# EAGLE library part HIROSE_DF_17 (library greghale_eib_preamp)
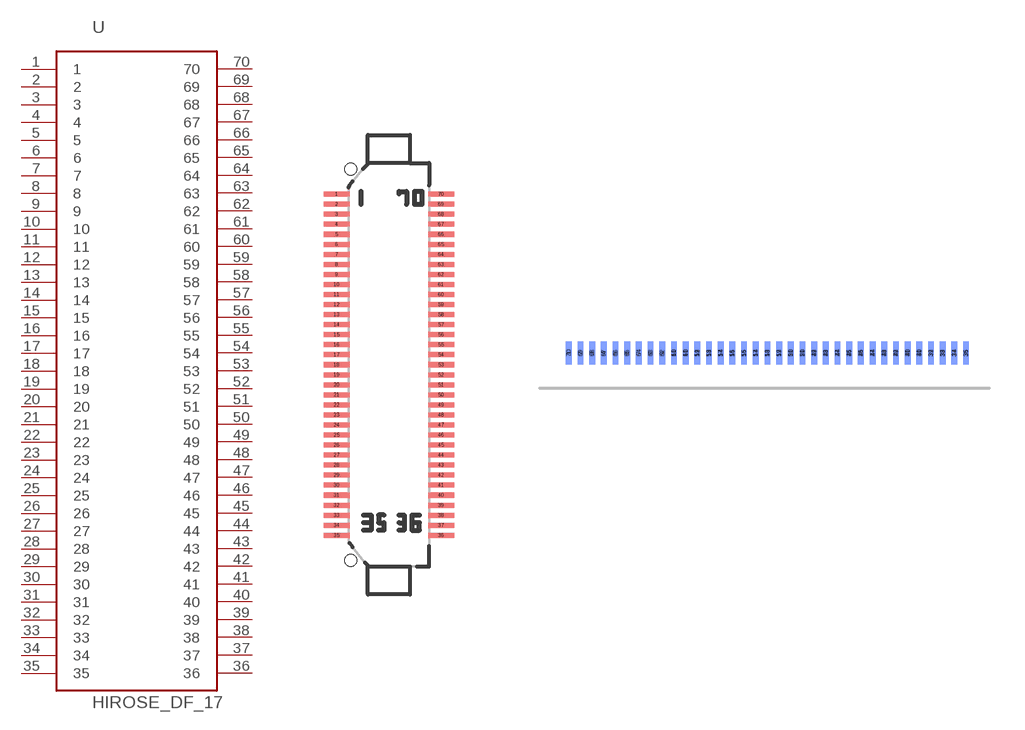
[diagram p0: symbol with the pads of HIROSE_DF17_70_TOPVIEW; footprints HIROSE_DF17_70_TOPVIEW, HIROSE_DF17_70_SIDEMOUNT]

Designator prefix -

## HIROSE_DF_17SMD_TOPVIEW  [HIROSE_DF17_70_TOPVIEW]
1  1
2  2  nc
3  3
4  4
5  5
6  6
7  7
8  8
9  9
10  10
11  11
12  12
13  13
14  14
15  15
16  16
17  17
18  18
19  19
20  20
21  21
22  22
23  23
24  24
25  25
26  26
27  27
28  28
29  29
30  30
31  31
32  32
33  33
34  34
35  35  nc
36  36  nc
37  37
38  38
39  39
40  40
41  41
42  42
43  43
44  44
45  45
46  46
47  47
48  48
49  49
50  50
51  51
52  52
53  53
54  54
55  55
56  56
57  57
58  58
59  59
60  60
61  61
62  62
63  63
64  64
65  65
66  66
67  67
68  68
69  69
70  70

## HIROSE_DF_17SMD_SIDEMOUNT  [HIROSE_DF17_70_SIDEMOUNT]
Pads as for HIROSE_DF17_70_TOPVIEW

## Footprint HIROSE_DF17_70_TOPVIEW (pad centres in mm)
smd 1.3 x 0.25: 1 -2.6,8.5; 2 -2.6,8; 3 -2.6,7.5; 4 -2.6,7; 5 -2.6,6.5; 6 -2.6,6; 7 -2.6,5.5; 8 -2.6,5; 9 -2.6,4.5; 10 -2.6,4; 11 -2.6,3.5; 12 -2.6,3; 13 -2.6,2.5; 14 -2.6,2; 15 -2.6,1.5; 16 -2.6,1; 17 -2.6,0.5; 18 -2.6,0; 19 -2.6,-0.5; 20 -2.6,-1; 21 -2.6,-1.5; 22 -2.6,-2; 23 -2.6,-2.5; 24 -2.6,-3; 25 -2.6,-3.5; 26 -2.6,-4; 27 -2.6,-4.5; 28 -2.6,-5; 29 -2.6,-5.5; 30 -2.6,-6; 31 -2.6,-6.5; 32 -2.6,-7; 33 -2.6,-7.5; 34 -2.6,-8; 35 -2.6,-8.5; 36 2.6,-8.5; 37 2.6,-8; 38 2.6,-7.5; 39 2.6,-7; 40 2.6,-6.5; 41 2.6,-6; 42 2.6,-5.5; 43 2.6,-5; 44 2.6,-4.5; 45 2.6,-4; 46 2.6,-3.5; 47 2.6,-3; 48 2.6,-2.5; 49 2.6,-2; 50 2.6,-1.5; 51 2.6,-1; 52 2.6,-0.5; 53 2.6,0; 54 2.6,0.5; 55 2.6,1; 56 2.6,1.5; 57 2.6,2; 58 2.6,2.5; 59 2.6,3; 60 2.6,3.5; 61 2.6,4; 62 2.6,4.5; 63 2.6,5; 64 2.6,5.5; 65 2.6,6; 66 2.6,6.5; 67 2.6,7; 68 2.6,7.5; 69 2.6,8; 70 2.6,8.5
hole 0.6 at -1.9,9.75
hole 0.6 at -1.9,-9.75

## Footprint HIROSE_DF17_70_SIDEMOUNT (pad centres in mm)
smd 0.25 x 1: 1 -8.5,0.75; 2 -8,0.75; 3 -7.5,0.75; 4 -7,0.75; 5 -6.5,0.75; 6 -6,0.75; 7 -5.5,0.75; 8 -5,0.75; 9 -4.5,0.75; 10 -4,0.75; 11 -3.5,0.75; 12 -3,0.75; 13 -2.5,0.75; 14 -2,0.75; 15 -1.5,0.75; 16 -1,0.75; 17 -0.5,0.75; 18 0,0.75; 19 0.5,0.75; 20 1,0.75; 21 1.5,0.75; 22 2,0.75; 23 2.5,0.75; 24 3,0.75; 25 3.5,0.75; 26 4,0.75; 27 4.5,0.75; 28 5,0.75; 29 5.5,0.75; 30 6,0.75; 31 6.5,0.75; 32 7,0.75; 33 7.5,0.75; 34 8,0.75; 35 8.5,0.75
smd 0.25 x 1 bottom: 36 8.5,0.75; 37 8,0.75; 38 7.5,0.75; 39 7,0.75; 40 6.5,0.75; 41 6,0.75; 42 5.5,0.75; 43 5,0.75; 44 4.5,0.75; 45 4,0.75; 46 3.5,0.75; 47 3,0.75; 48 2.5,0.75; 49 2,0.75; 50 1.5,0.75; 51 1,0.75; 52 0.5,0.75; 53 0,0.75; 54 -0.5,0.75; 55 -1,0.75; 56 -1.5,0.75; 57 -2,0.75; 58 -2.5,0.75; 59 -3,0.75; 60 -3.5,0.75; 61 -4,0.75; 62 -4.5,0.75; 63 -5,0.75; 64 -5.5,0.75; 65 -6,0.75; 66 -6.5,0.75; 67 -7,0.75; 68 -7.5,0.75; 69 -8,0.75; 70 -8.5,0.75